# Altium footprint library Seeed-OPL-Capacitor.PCBLIB: 31 footprints (part 1 of 2)
Each footprint in its own frame and in the unit in brackets; x right, y up, seen from the top. Pads: shape width x height; smd on the part's side, far side on the other; paste and mask are expansions set on the pad; w line width, h text height; cw(c..) or ccw(c..) is an arc to the next point about the centre after c.
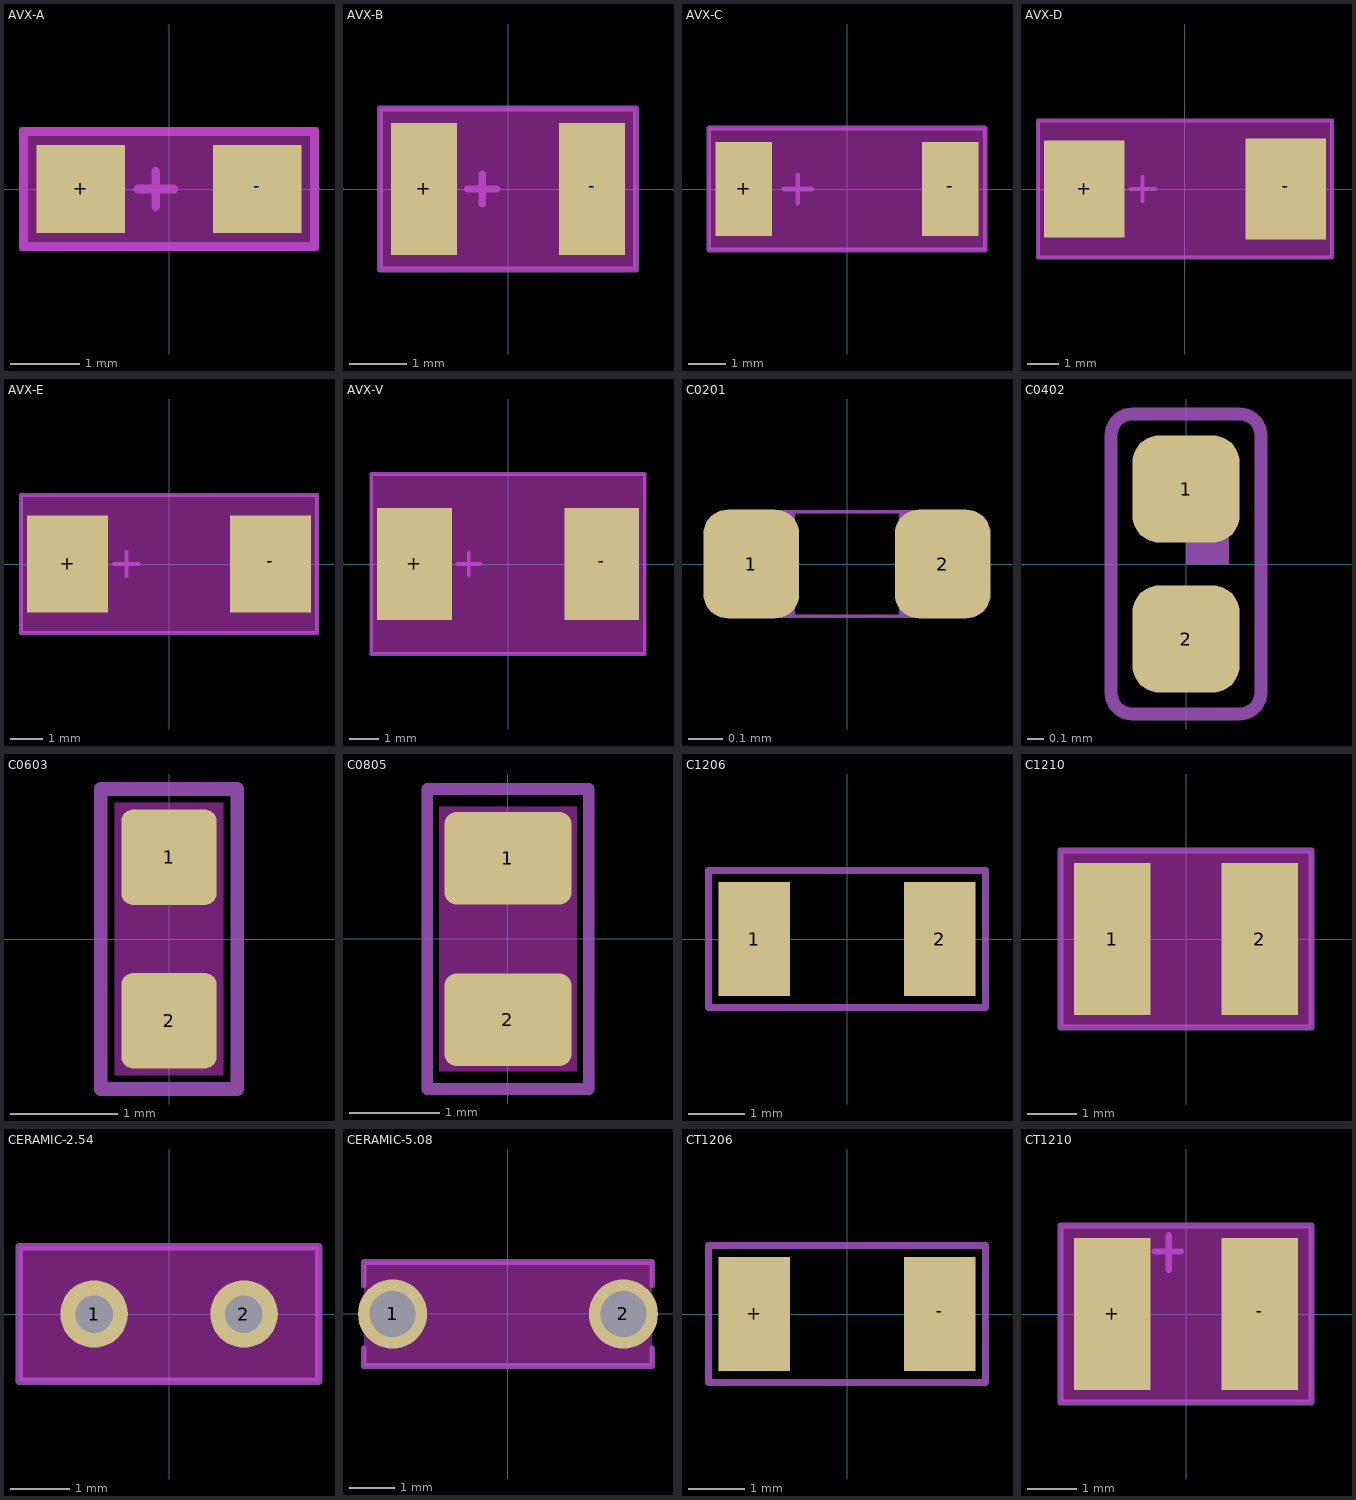
[diagram p0: the footprints below, top view; thin cyan lines are the x and y axes]

## AVX-A [mil]
pads (2):
  rect 50x50 smd: +(-50,0) -(50,0)
Keep-Out Layer:
  rectangle: -85,-35 85,35
Mechanical 2:
  lines w5: -17.5,0 2.5,0 ; -7.5,-10 -7.5,10 ; -82.5,-32.5 82.5,-32.5 82.5,32.5 -82.5,32.5 -82.5,-32.5

## AVX-B [mil]
pads (2):
  rect 45x90 smd: +(-57.5,0) -(57.5,0)
Keep-Out Layer:
  rectangle: -87.5,-55 87.5,55
Mechanical 2:
  lines w4: -87.5,-55 87.5,-55 87.5,55 -87.5,55 -87.5,-55
  lines w5: -27.5,0 -7.5,0 ; -17.5,-10 -17.5,10

## AVX-C [mil]
pads (2):
  rect 60x100 smd: +(-110,0) -(110,0)
Keep-Out Layer:
  rectangle: -147.5,-65 147.5,65
Mechanical 2:
  lines w5: -67.5,0 -37.5,0 ; -52.5,-15 -52.5,15 ; -147.5,-65 147.5,-65 147.5,65 -147.5,65 -147.5,-65

## AVX-D [mil]
pads (2):
  rect 100x120 smd: +(-125,0)
  rect 100x125 smd: -(125,0)
Keep-Out Layer:
  rectangle: -182.5,-85 182.5,85
Mechanical 2:
  lines w5: -67.5,0 -37.5,0 ; -52.5,-15 -52.5,15 ; -182.5,-85 182.5,-85 182.5,85 -182.5,85 -182.5,-85

## AVX-E [mil]
pads (2):
  rect 100x120 smd: +(-125,0) -(125,0)
Keep-Out Layer:
  rectangle: -182.5,-85 182.5,85
Mechanical 2:
  lines w5: -67.5,0 -37.5,0 ; -52.5,-15 -52.5,15 ; -182.5,-85 182.5,-85 182.5,85 -182.5,85 -182.5,-85

## AVX-V [mil]
pads (2):
  rect 100x150 smd: +(-125,0) -(125,0)
Keep-Out Layer:
  rectangle: -182.5,-120 182.5,120
Mechanical 2:
  lines w5: -67.5,0 -37.5,0 ; -52.5,-15 -52.5,15 ; -182.5,-120 182.5,-120 182.5,120 -182.5,120 -182.5,-120

## C0201 [mil]
pads (2):
  rrect50% 11x12.5 smd: 1(-11,0) 2(11,0)
Mechanical 18:
  rectangle: -12,-6 -6,6
  rectangle: 6,-6 12,6
  lines w0.39: -12,-6 12,-6 12,6 -12,6 -12,-6

## C0402 [mil]
pads (2):
  rrect50% 25x25 smd: 1(0,17.5) 2(0,-17.5)
Mechanical 2:
  lines w3: -17.5,-30 ccw(c-12.5,-30) -12.5,-35 12.5,-35 ccw(c12.5,-30) 17.5,-30 17.5,30 ccw(c12.5,30) 12.5,35 -12.5,35 ccw(c-12.5,30) -17.5,30 -17.5,-30
Mechanical 18:
  region: 0,0 10,0 10,10 0,10

## C0603 [mil]
pads (2):
  rrect25% 35x35 smd: 1(0,30) 2(0,-30)
Keep-Out Layer:
  region: -20,50 -20,-50 20,-50 20,50
Mechanical 2:
  lines w5: -25,-55 25,-55 25,55 -25,55 -25,-55

## C0805 [mil]
pads (2):
  rrect25% 55x40 smd: 1(0,35) 2(0,-35)
Keep-Out Layer:
  region: -30,57.5 -30,-57.5 30,-57.5 30,57.5
Mechanical 2:
  lines w5: -35,-65 35,-65 35,65 -35,65 -35,-65

## C1206 [mil]
pads (2):
  rect 50x80 smd: 1(-65,0) 2(65,0)
Mechanical 2:
  lines w5: -97,-48 97,-48 97,48 -97,48 -97,-48

## C1210 [mil]
pads (2):
  rect 61.02x122.05 smd: 1(-59.06,0) 2(59.06,0)
Keep-Out Layer:
  rectangle: -100,-70 100,70
Mechanical 2:
  lines w5: -100.39,-70.87 100.39,-70.87 100.39,70.87 -100.39,70.87 -100.39,-70.87

## CERAMIC-2.54 [mil]
pads (2):
  round 45 hole 25: 1(-50,0) 2(50,0)
Keep-Out Layer:
  rectangle: -100,-45 100,45
Mechanical 2:
  lines w5: -100,-45 100,-45 100,45 -100,45 -100,-45

## CERAMIC-5.08 [mil]
pads (2):
  round 60 hole 40: 1(-100,0) 2(100,0)
Keep-Out Layer:
  rectangle: -125,-45 125,45
Mechanical 2:
  lines w5: -125,-30 -125,-45 125,-45 125,-30 ; -125,25 -125,45 125,45 125,25

## CT1206 [mil]
pads (2):
  rect 50x80 smd: +(-65,0) -(65,0)
Mechanical 2:
  lines w5: -97,-48 97,-48 97,48 -97,48 -97,-48

## CT1210 [mil]
pads (2):
  rect 61.02x122.05 smd: +(-59.06,0) -(59.06,0)
Keep-Out Layer:
  rectangle: -100,-70 100,70
Mechanical 2:
  lines w5: -25,50 -3.94,50 ; -13.78,35.43 -13.78,62.99 ; -100.39,-70.87 100.39,-70.87 100.39,70.87 -100.39,70.87 -100.39,-70.87